# Altium footprint library Connectors.PcbLib: 9 footprints
Each footprint in its own frame and in the unit in brackets; x right, y up, seen from the top. Pads: shape width x height; smd on the part's side, far side on the other; paste and mask are expansions set on the pad; w line width, h text height; cw(c..) or ccw(c..) is an arc to the next point about the centre after c.
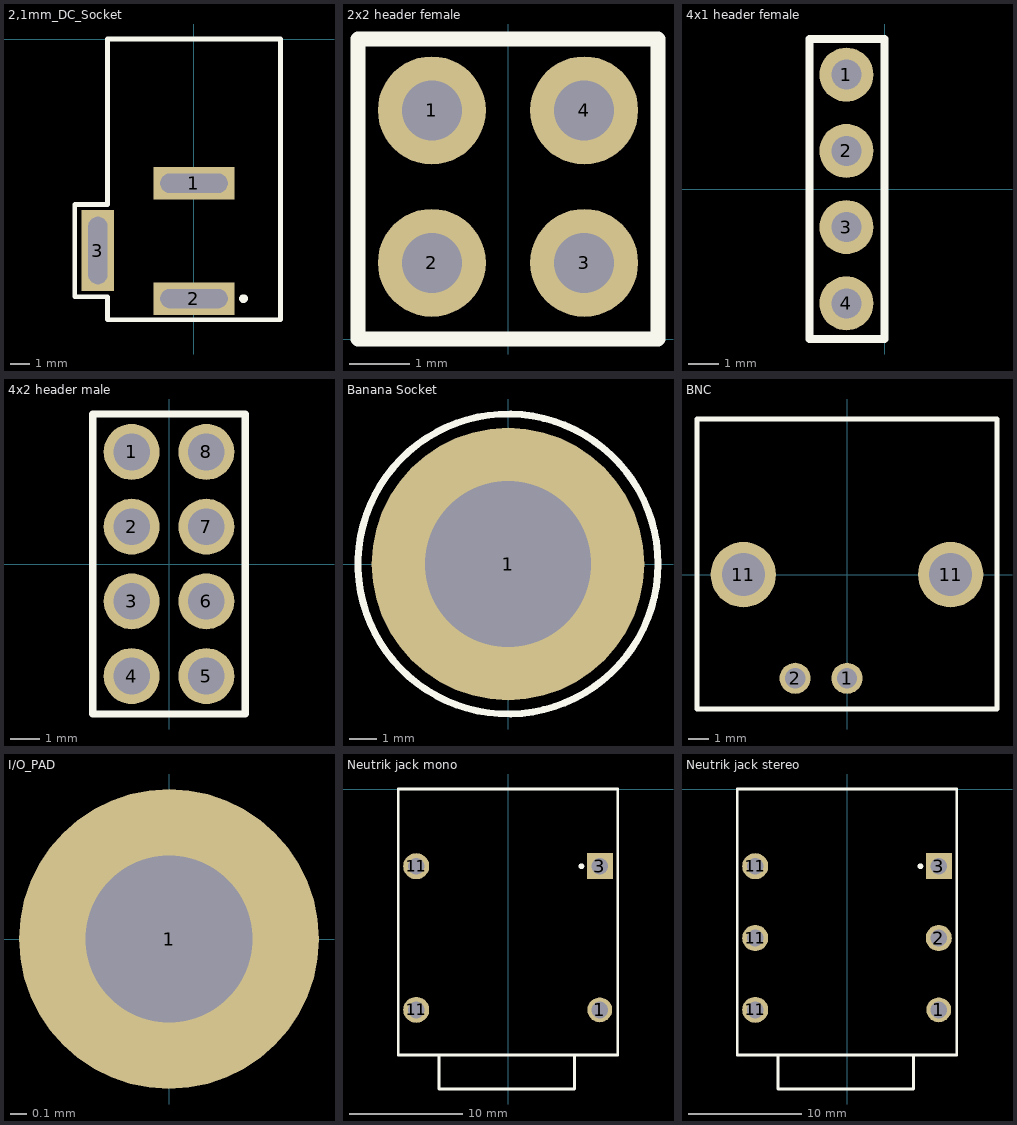
[diagram p0: the footprints below, top view; thin cyan lines are the x and y axes]

## 2,1mm_DC_Socket [mm]
pads (3):
  rect 4.2x1.7 hole 1 slot 3.5 at 0 deg: 1(0,-7.5) 2(0,-13.5)
  rect 1.7x4.2 hole 1 slot 3.5 at 90 deg: 3(-5,-11)
Top Overlay:
  circle w0.254: c2.575,-13.5 r0.1
  lines w0.254: -4.5,-13.4 -4.5,-14.6 4.5,-14.6 4.5,0 -4.5,0 -4.5,-8.6 -6.2,-8.6 -6.2,-13.4 -4.5,-13.4 ; -4.5,-13.4 -4.5,-13.4

## 2x2 header female [mm] "2x2 header female"
pads (4):
  round 1.8 hole 1: 1(-1.27,3.81) 2(-1.27,1.27) 3(1.27,1.27) 4(1.27,3.81)
Top Overlay:
  lines w0.254: -2.5,0 -2.5,5 2.5,5 2.5,0 -2.5,0
3D body "PBD-4.step": height 8.5, standoff -3, extent -2.5,-0.04 2.58,5.04

## 4x1 header female [mm] "4x1 header female"
pads (4):
  round 1.8 hole 1: 1(-1.27,3.81) 2(-1.27,1.27) 3(-1.27,-1.27) 4(-1.27,-3.81)
Top Overlay:
  lines w0.254: -2.5,-5 -2.5,5 0,5 0,-5 -2.5,-5
3D body "PBS-4.step": height 8.5, standoff -3, extent -2.54,-5.08 0,5.08

## 4x2 header male [mm] "4x2 header male"
pads (8):
  round 1.9 hole 1.25: 1(-1.27,3.81) 2(-1.27,1.27) 3(-1.27,-1.27) 4(-1.27,-3.81) 5(1.27,-3.81) 6(1.27,-1.27) 7(1.27,1.27) 8(1.27,3.81)
Top Overlay:
  lines w0.254: -2.6,-5.1 -2.6,5.1 2.6,5.1 2.6,-5.1 -2.6,-5.1
3D body "PLD-8.step": height 8.6, standoff -3, extent -2.54,-5.08 2.54,5.08

## Banana Socket [mm]
pads (1):
  round 10 hole 6.1: 1(0,0)
Top Overlay:
  circle w0.254: c0,0 r5.5

## BNC [mm] "PCB mounted BNC"
pads (4):
  round 1.524 hole 1: 1(0,-5.08) 2(-2.54,-5.08)
  round 3.2 hole 2.1: 11(-5.08,0) 11(5.08,0)
Top Overlay:
  lines w0.254: -7.35,-6.58 7.35,-6.58 7.35,7.62 -7.35,7.62 -7.35,-6.58

## I/O_PAD [mm]
pads (1):
  round 1.8 hole 1: 1(0,0)

## Neutrik jack mono [mm]
pads (4):
  round 2.2 hole 1.5: 1(8.115,-19.53)
  rect 2.3x2.3 hole 1.5: 3(8.115,-6.83)
  round 2.3 hole 1.5: 11(-8.115,-19.53) 11(-8.115,-6.83)
Top Overlay:
  circle w0.254: c6.49,-6.83 r0.127
  lines w0.254: -6.115,-23.53 -6.115,-26.53 5.885,-26.53 5.885,-23.53 ; 9.6,-23.53 -9.7,-23.53 -9.7,0 9.6,0 ; 9.7,-23.53 9.7,0

## Neutrik jack stereo [mm]
pads (6):
  round 2.2 hole 1.5: 1(8.115,-19.53)
  round 2.3 hole 1.5: 2(8.115,-13.18) 11(-8.115,-19.53) 11(-8.115,-13.18) 11(-8.115,-6.83)
  rect 2.3x2.3 hole 1.5: 3(8.115,-6.83)
Top Overlay:
  circle w0.254: c6.49,-6.83 r0.127
  lines w0.254: -6.115,-23.53 -6.115,-26.53 5.885,-26.53 5.885,-23.53 ; 9.6,-23.53 -9.7,-23.53 -9.7,0 9.6,0 ; 9.7,-23.53 9.7,0